# Altium schematic symbol library 27nH_inductor_0805_Components - 15.03.22 - 13.12.SchLib: 1 symbol
Pins are listed as number, name and electrical type; pins without a type are passive.

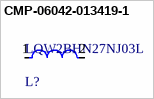
[diagram p0: symbol CMP-06042-013419-1]

## CMP-06042-013419-1
designator L?, comment LQW2BHN27NJ03L
Wire Wound RF Inductor 27nH ±5% 540mA 0.17Ω 0805 (2015); Shielding: Unshielded; DC Resistance (DCR): 170mR; Test Frequency: 100MHz; Self Resonant Frequency: 2.3GHz; Q Factor: 40; Core Material: Non-Magnetic; Military Standard: Not; Depth: 1.7mm; Case Code (Imperial): 0805; Inductance: 27nH; Height - Seated (Max): 0.07inch; Case Code (Metric): 2012; Termination: SMD/SMT; DC Current: 540mA; Weight: 0.000317oz; Min Operating Temperature: -40°C; Packaging: Tape and Reel; Package Quantity: 2000; Series Resistance: 170mR; Radiation Hardening: No; Case/Package: 0805; Height: 1.7mm; Max DC Current: 540mA; Mount: Surface Mount; Max Operating Temperature: 85°C; Tolerance: 5%; Current Rating: 540mA; Lead Free: Lead Free; Length: 2.2mm; Resistor Type: Wirewound; Width: 0.059inch
footprint FP-LQW2BHN_03-MFG
pins: 1, 2